# Altium schematic symbol library Micro_Schlib.SchLib: 22 symbols
Pins are listed as number, name and electrical type; pins without a type are passive.

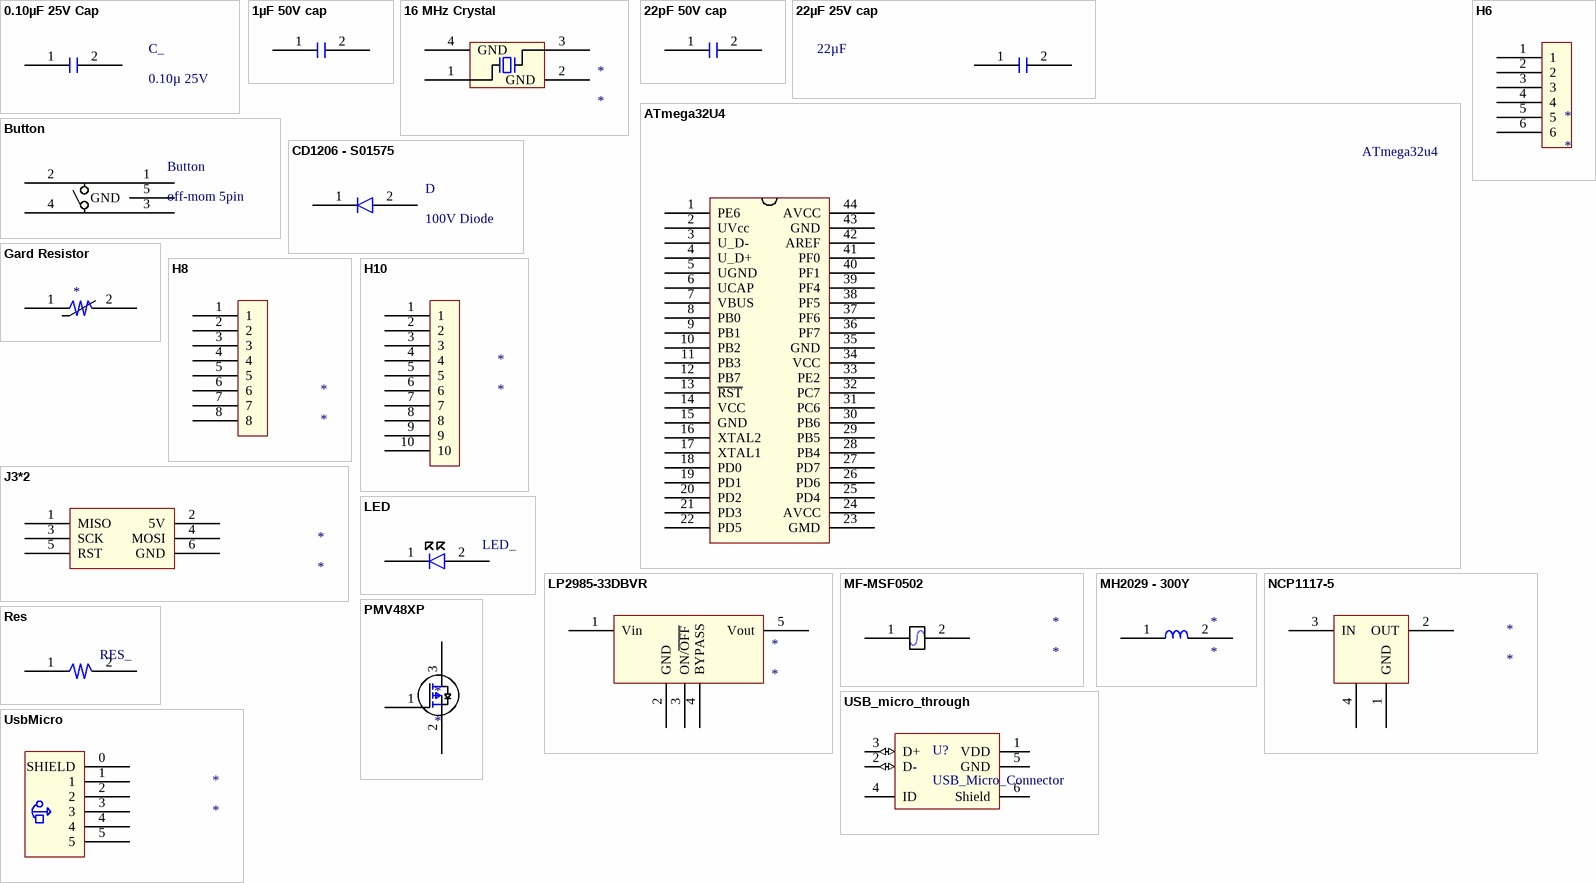
[diagram p0: symbols 0.10µF 25V Cap to UsbMicro]

## 0.10µF 25V Cap
designator C_, comment 0.10µ 25V
Details: 0.10µF ±10% 25V Ceramic Capacitor X7R 0805 (2012 Metric); Value: 0.10µF ±10% 25V; Footprint: 0805 (2012 Metric) -X7R; Type: Ceramic Capacitor
footprint R15_0805_cap_M (R15_cap_M)
footprint 0805_CAP (0805 Footprint)
pins: 1, 2

## 1µF 50V cap
designator 1µF  (value not drawn)
footprint C2012_M (C2012X7R1H105K125AE)
pins: 1, 2

## 16 MHz Crystal
designator *
footprint TSX-3225 (SER4069CT)
pins: 1, 2 GND, 3, 4 GND

## 22pF 50V cap
designator 22pF  (value not drawn)
footprint R15_0805_cap_M (R15_cap_M)
footprint 0805_CAP (0805 Footprint)
pins: 1, 2

## 22µF 25V cap
designator 22µF  (value not drawn)
footprint X5R_22uF_25v_1206_X_M
pins: 1, 2

## ATmega32U4
designator ATmega32u4, comment ATmega32u4  (value not drawn)
footprint ATmega32u4_TQFP44 (ATmega32u4_TQFP44_M)
pins: 1 PE6, 2 UVcc, 3 U_D-, 4 U_D+, 5 UGND, 6 UCAP, 7 VBUS, 8 PB0, 9 PB1, 10 PB2, 11 PB3, 12 PB7, 13 ~{RST}, 14 VCC, 15 GND, 16 XTAL2, 17 XTAL1, 18 PD0, 19 PD1, 20 PD2, 21 PD3, 22 PD5, 23 GMD, 24 AVCC, 25 PD4, 26 PD6, 27 PD7, 28 PB4, 29 PB5, 30 PB6, 31 PC6, 32 PC7, 33 PE2, 34 VCC, 35 GND, 36 PF7, 37 PF6, 38 PF5, 39 PF4, 40 PF1, 41 PF0, 42 AREF, 43 GND, 44 AVCC

## Button
designator Button, comment off-mom 5pin
footprint 450-1760 (Button off-mom)
pins: 1, 2, 3, 4, 5 GND

## CD1206 - S01575
designator D, comment 100V Diode
Standard Diode
footprint C2012_M (C2012X7R1H105K125AE)
footprint CD1206-S01575 (Switching Chip Diode, 2-Leads, Body 3.20x1.50mm, IPC Medium Density)
pins: 1, 2

## Gard Resistor
designator *  (value not drawn)
Gard Resistor
footprint UltraGuard 0805
pins: 1, 2

## H6
designator *
Header 6*1
footprint H6 (header 6*1)
pins: 1, 2, 3, 4, 5, 6

## H8
designator *
Header 8*1
footprint H8 (header 8*1)
pins: 1, 2, 3, 4, 5, 6, 7, 8

## H10
designator *
Header 10*1
footprint H10 (header 10*1)
pins: 1, 2, 3, 4, 5, 6, 7, 8, 9, 10

## J3*2
designator *
Header 3*2
footprint J3*2 (AVR ISP pinouts 6 pin)
pins: 1 MISO, 2 5V, 3 SCK, 4 MOSI, 5 RST, 6 GND

## LED
designator LED_  (value not drawn)
LED 0805; Color: G/B/Y
footprint Wurth led 0805
pins: 1, 2

## LP2985-33DBVR
designator *
3.3V reg
footprint LP2985_SOT23_M
pins: 1 Vin, 2 GND, 3 ON/~{OFF}, 4 BYPASS, 5 Vout

## MF-MSF0502
designator *
Resetable fuse
footprint MF-MSMF050_M
pins: 1, 2

## MH2029 - 300Y
designator *
Ferrite bead
footprint MH2029-300YC (Ferrite bead 0805)
pins: 1, 2

## NCP1117-5
designator *
5V reg
footprint NCP1117_SOT223 (NCP1117_SOT223_M)
pins: 1 GND, 2 OUT, 3 IN, 4 tab

## PMV48XP
designator *
P type MOSFET
footprint PMV48XP_SOT23 (PMV48XP_SOT23_M)
pins: 1 G, 2 S, 3 D

## Res
designator RES_  (value not drawn)
Resistor 0805
footprint RNCP0805_M
pins: 1, 2

## USB_micro_through
designator U?, comment USB_Micro_Connector
CONN USB MICRO B RECPT SMT R/A; Manufacturer Part Number: 10118194-0001LF; 01 Created By: David Lynch @ 30/11/2017; 02 Reviewed By: Rodrigo Maureira @ 14/01/2018; Supplier Part Number 1: 609-4618-1-ND; Digikey URL: https://www.digikey.com.au/product-detail/en/amphenol-fci/10118194-0001LF/609-4618-1-ND/2785382; Supplier 1: Digi-Key
footprint USB_micro_through
pins: 1 VDD (power), 2 D- (io), 3 D+ (io), 4 ID, 5 GND (power), 6 Shield

## UsbMicro
designator *
Micro Usb
footprint USB
pins: 0 SHIELD, 1, 2, 3, 4, 5